# Altium integrated library SS34.IntLib: 1 symbol
Pins are listed as number, name and electrical type; pins without a type are passive.

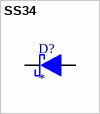
[diagram p0: symbol SS34]

## SS34
designator D?
Diode Schottky 40 V 3A Surface Mount SMA; MF: MDD; MP: SS34; SnapEDA_Link: https://www.snapeda.com/parts/SS34/MDD/view-part/?ref=snap; Package: SMC-2 ON Semiconductor; Value: *; Check_prices: https://www.snapeda.com/parts/SS34/MDD/view-part/?ref=eda
footprint DO214AB
pins: A (io), C (io)